# Altium footprint library Batarey_connector 3mm.PcbLib: 1 footprints
Each footprint in its own frame and in the unit in brackets; x right, y up, seen from the top. Pads: shape width x height; smd on the part's side, far side on the other; paste and mask are expansions set on the pad; w line width, h text height; cw(c..) or ccw(c..) is an arc to the next point about the centre after c.
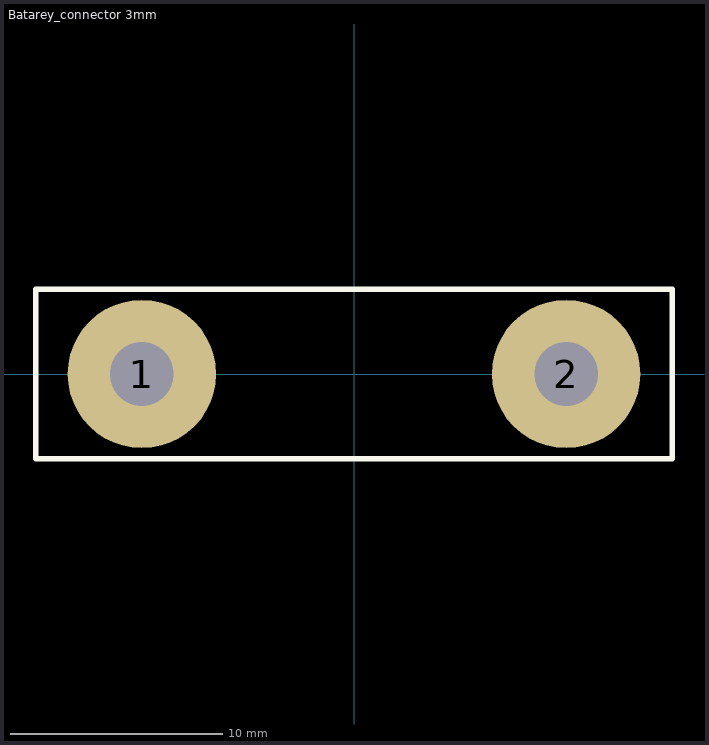
[diagram p0: the footprint, top view; thin cyan lines are the x and y axes]

## Batarey_connector 3mm [mm]
pads (2):
  round 7 hole 3: 1(-10,0) 2(10,0)
Top Overlay:
  lines w0.254: -15,-4 15,-4 15,4 -15,4 -15,-4
Bottom Overlay:
  lines w0.508: -15,-4 15,-4 15,4 -15,4 -15,-4